# Altium footprint library JST B4B-PH-K.PCBLIB: 1 footprints
Each footprint in its own frame and in the unit in brackets; x right, y up, seen from the top. Pads: shape width x height; smd on the part's side, far side on the other; paste and mask are expansions set on the pad; w line width, h text height; cw(c..) or ccw(c..) is an arc to the next point about the centre after c.
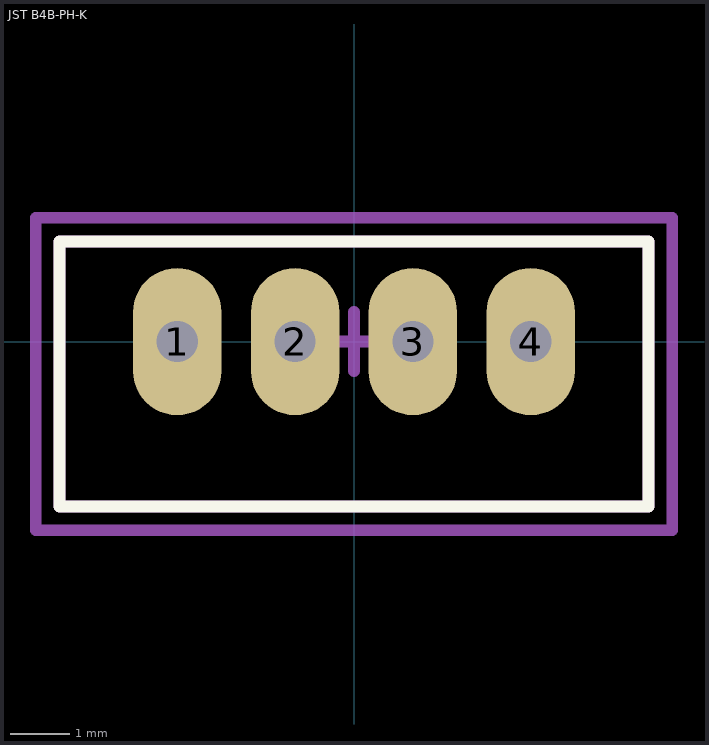
[diagram p0: the footprint, top view; thin cyan lines are the x and y axes]

## JST B4B-PH-K [mm]
height 6
pads (4):
  oval 1.5x2.5 hole 0.7: 1(-3,0) 2(-1,0) 3(1,0) 4(3,0)
Top Overlay:
  lines w0.2: -5,-2.8 5,-2.8 5,1.7 -5,1.7 -5,-2.8
Bottom Overlay:
  circle w0.254: c-4.1,1.1 r0.141
Mechanical 13:
  lines w0.2: -5,-2.8 -5,1.7 5,1.7 5,-2.8 -5,-2.8
Mechanical 15:
  lines w0.2: -0.5,0 0.5,0 ; 0,-0.5 0,0.5 ; -5.4,-3.2 -5.4,2.1 5.4,2.1 5.4,-3.2 -5.4,-3.2
3D body "JST B4B-PH-K-S.STEP": height 6, standoff -3.4, extent -4.95,-2.8 4.95,1.7